# EAGLE library part 74*164 (library 74ttlDIN)
8-bit parallel out SHIFT REGISTER
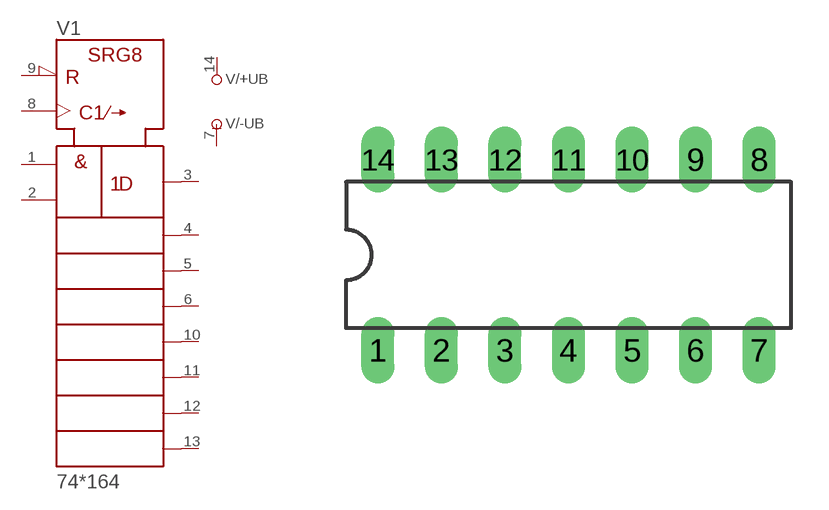
[diagram p51: symbol with the pads of DIL14; footprint DIL14]

Designator prefix V; gates /+UB=+UB /-UB=-UB 1=164

## 74164N  [DIL14]
1  1:A  in
2  1:B  in
3  1:QA  out
4  1:QB  out
5  1:QC  out
6  1:QD  out
7  /-UB:-UB  pwr
8  1:CLK  in
9  1:!CLR  in
10  1:QE  out
11  1:QF  out
12  1:QG  out
13  1:QH  out
14  /+UB:+UB  pwr

## Footprint DIL14 (pad centres in mm)
Dual In Line Package
drill 0.813 long: 1 -7.62,-3.81; 2 -5.08,-3.81; 3 -2.54,-3.81; 4 0,-3.81; 5 2.54,-3.81; 6 5.08,-3.81; 7 7.62,-3.81; 8 7.62,3.81; 9 5.08,3.81; 10 2.54,3.81; 11 0,3.81; 12 -2.54,3.81; 13 -5.08,3.81; 14 -7.62,3.81